# Altium footprint library Gelnar.PcbLib: 295 footprints (part 8 of 19)
Each footprint in its own frame and in the unit in brackets; x right, y up, seen from the top. Pads: shape width x height; smd on the part's side, far side on the other; paste and mask are expansions set on the pad; w line width, h text height; cw(c..) or ccw(c..) is an arc to the next point about the centre after c.
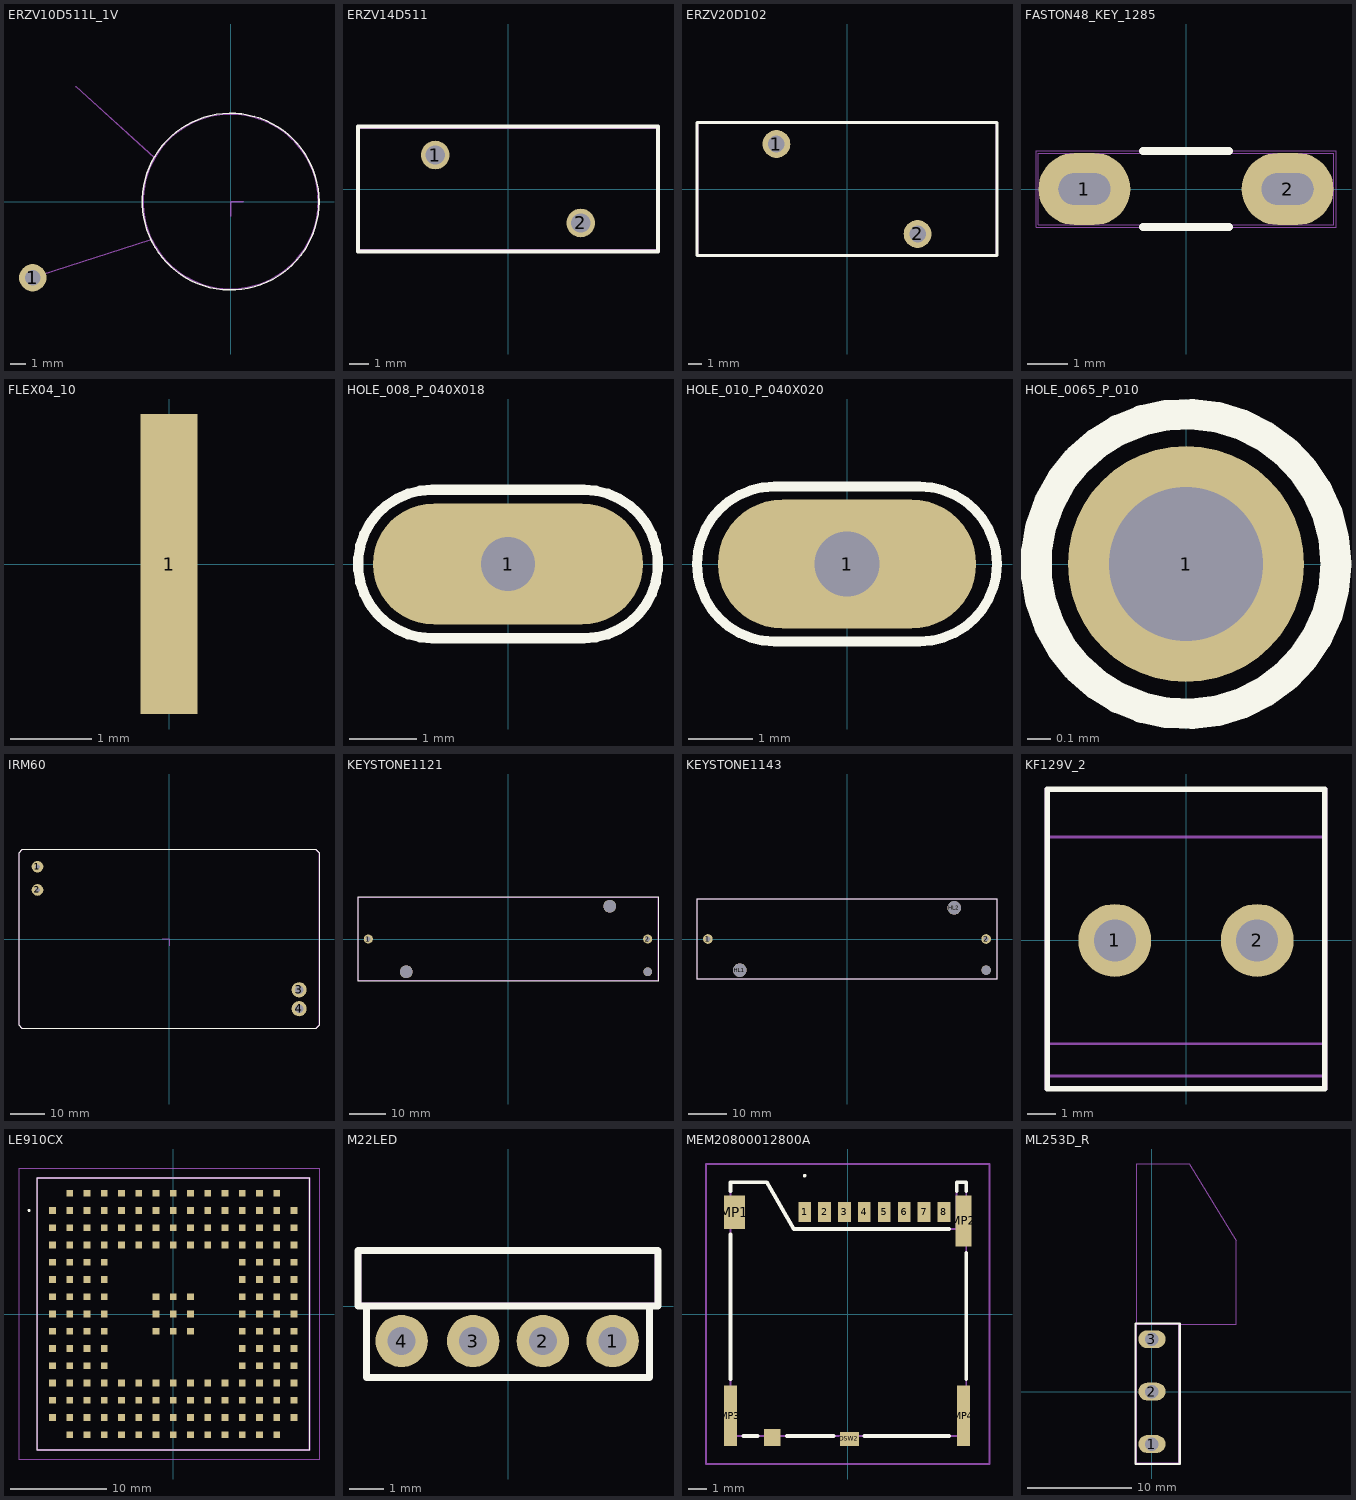
[diagram p7: the footprints below, top view; thin cyan lines are the x and y axes]

## ERZV10D511L_1V [mm]
pads (1):
  round 1.8 hole 1 mask+0.05: 1(-13,-5)
Top Overlay:
  circle w0.1: c0,0 r5.8
Mechanical 9:
  lines w0.1: 0,-0.953 0,0 0.826,0
Mechanical 15:
  circle w0.1: c0,0 r5.75
  lines w0.1: -12.509,-4.826 -5.25,-2.5 ; -10.16,7.556 -5,2.875

## ERZV14D511 [mm]
height 9.5
pads (2):
  round 1.5 hole 1 mask+0.05: 1(-3.81,1.778) 2(3.81,-1.778)
Top Overlay:
  lines w0.2: -7.85,-3.264 -7.85,3.264 7.85,3.264 7.85,-3.264 -7.85,-3.264
Mechanical 15:
  lines w0.1: -7.786,-3.2 -7.786,3.2 7.786,3.2 7.786,-3.2 -7.786,-3.2
Multi-Layer:
  text "Value" at -1.108,-1.353 h0.75
Mechanical 20:
  lines w0.1: -7.85,-3.264 -7.85,3.264 7.85,3.264 7.85,-3.264 -7.85,-3.264

## ERZV20D102 [mm]
height 9.5
pads (2):
  round 2 hole 1.2 mask+0.05: 1(-5.08,3.238) 2(5.08,-3.238)
Top Overlay:
  lines w0.2: -10.795,-4.792 -10.795,4.792 10.795,4.792 10.795,-4.792 -10.795,-4.792
Mechanical 15:
  lines w0.1: -10.731,-4.729 -10.731,4.729 10.731,4.729 10.731,-4.729 -10.731,-4.729
Mechanical 20:
  lines w0.1: -10.795,-4.792 -10.795,4.792 10.795,4.792 10.795,-4.792 -10.795,-4.792

## FASTON48_KEY_1285 [mm]
pads (2):
  oval 2.3x1.8 hole 0.8 slot 1.3 at 0 deg mask+0.05: 1(-2.54,0) 2(2.54,0)
Top Overlay:
  lines w0.2: -1.079,-0.953 1.079,-0.953 ; -1.079,0.953 1.079,0.953
Mechanical 15:
  lines w0.01: -3.7,-0.889 3.7,-0.889 3.7,0.889 -3.7,0.889 -3.7,-0.889
Mechanical 20:
  lines w0.01: -3.752,-0.953 3.752,-0.953 3.752,0.953 -3.752,0.953 -3.752,-0.953
3D body "1285--3DModel-STEP-630548.STEP": height 10.7, standoff -2, extent -3.175,-0.254 3.175,0.254

## FLEX04_10 [mm]
pads (1):
  rect 0.7x3.7 smd mask+0.05: 1(0,0)
Multi-Layer:
  text "Value" at -1.045,-1.187 h0.75

## HOLE_008_P_040X018 [mm]
pads (1):
  oval 4x1.8 hole 0.8 mask+0.05: 1(0,0)
Top Overlay:
  lines w0.15: -1.122,-1.1 1.122,-1.1 ccw(c1.122,0) 1.122,1.1 -1.122,1.1 ccw(c-1.122,0) -1.122,-1.1
Mechanical 15:
  circle w0.01: c0,0 r0.6
Mechanical 16:
  circle w0.01: c0,0 r0.6
Multi-Layer:
  text "Value" at -1.19,-0.697 h0.75
Mechanical 20:
  lines w0.01: -1.15,-1.05 1.15,-1.05 ccw(c1.15,0) 1.15,1.05 -1.15,1.05 ccw(c-1.15,0) -1.15,-1.05

## HOLE_010_P_040X020 [mm]
pads (1):
  oval 4x2 hole 1 mask+0.05: 1(0,0)
Top Overlay:
  lines w0.15: -1.122,-1.2 1.122,-1.2 ccw(c1.122,0) 1.122,1.2 -1.122,1.2 ccw(c-1.122,0) -1.122,-1.2
Mechanical 15:
  circle w0.01: c0,0 r0.6
Mechanical 16:
  circle w0.01: c0,0 r0.6
Multi-Layer:
  text "Value" at -1.235,-0.983 h0.75
Mechanical 20:
  lines w0.01: -1.15,-1.15 1.15,-1.15 ccw(c1.15,0) 1.15,1.15 -1.15,1.15 ccw(c-1.15,0) -1.15,-1.15

## HOLE_0065_P_010 [mm]
pads (1):
  round 1 hole 0.65 mask+0.05: 1(0,0)
Top Overlay:
  circle w0.13: c0,0 r0.635
Mechanical 15:
  circle w0.01: c0,0 r0.635
Drill Drawing:
  circle w0.01: c0,0 r0.25
Multi-Layer:
  text "Description" at -0.767,-1.26 h0.5
Mechanical 20:
  circle w0.01: c0,0 r0.635

## IRM60 [mm]
pads (4):
  round 3.4 hole 1.4 mask+0.05: 1(-38.2,21) 2(-38.2,14.25)
  round 4.4 hole 2.4 mask+0.05: 3(37.8,-14.75) 4(37.8,-20.25)
Top Overlay:
  lines w0.2: -43.561,-25.035 -42.561,-26.035 42.561,-26.035 43.561,-25.035 43.561,25.035 42.561,26.035 -42.561,26.035 -43.561,25.035 -43.561,-25.035
Bottom Overlay:
  text "AC/L" at -31.752,20.348 h1
  text "-V" at 34.478,-14.831 h1
  text "+V" at 34.478,-21.562 h1
  text "AC/N" at -31.752,13.617 h1
Mechanical 15:
  circle w0.1: c-38.2,14.25 r0.65
  circle w0.1: c37.8,-20.25 r0.65
  lines w0.1: -43.5,-25 -42.5,-26 42.5,-26 43.5,-25 43.5,25 42.5,26 -42.5,26 -43.5,25 -43.5,-25
Mechanical 16:
  circle w0.1: c-38.2,14.25 r0.65
  circle w0.1: c37.8,-20.25 r0.65
  lines w0.1: -2,0 0,0 0,-2
Mechanical 20:
  lines w0.1: -43.563,-25.035 -42.563,-26.035 42.561,-26.035 43.561,-25.035 43.561,25.035 42.561,26.035 -42.563,26.035 -43.563,25.035 -43.563,-25.035

## KEYSTONE1121 [mm]
pads (5):
  round 2.5 hole 1.3 mask+0.05: 1(-38.33,0) 2(38.33,0)
  round 3.5 / inner round 1.524 / far side round 1.524 hole 3.5 unplated: HL1(-27.9,-9) HL2(27.9,9)
  round 2.4 / inner round 1.524 / far side round 1.524 hole 2.4 unplated: HL3(38.33,-9)
Top Overlay:
  lines w0.2: -41.15,-11.6 41.15,-11.6 41.15,11.6 -41.15,11.6 -41.15,-11.6
Mechanical 15:
  lines w0.1: -41.1,-11.5 41.1,-11.5 41.1,11.5 -41.1,11.5 -41.1,-11.5

## KEYSTONE1143 [mm]
pads (5):
  round 2.5 hole 1.3 mask+0.05: 1(-35.8,0) 2(35.8,0)
  round 3.5 / inner round 1.524 / far side round 1.524 hole 3.5 unplated: HL1(-27.6,-8) HL2(27.6,8)
  round 2.4 / inner round 1.524 / far side round 1.524 hole 2.4 unplated: HL3(35.8,-8)
Top Overlay:
  lines w0.2: -38.6,-10.4 38.6,-10.4 38.6,10.4 -38.6,10.4 -38.6,-10.4
Mechanical 15:
  lines w0.1: -38.55,-10.35 38.55,-10.35 38.55,10.35 -38.55,10.35 -38.55,-10.35
Multi-Layer:
  text "Value" at -1.299,-1.441 h0.75

## KF129V_2 [mm]
height 18
pads (2):
  round 2.6 hole 1.5 mask+0.1: 1(-2.54,0) 2(2.54,0)
Top Overlay:
  lines w0.2: -4.953,-5.298 4.953,-5.298 4.953,5.397 -4.953,5.397 -4.953,-5.298
Mechanical 15:
  circle w0.1: c-2.54,0 r0.65
  circle w0.1: c2.54,0 r0.65
  lines w0.1: -5,-5.3 -5,5.4 5,5.4 5,-5.3 -5,-5.3
Mechanical 16:
  circle w0.1: c-2.54,0 r0.65
  circle w0.1: c2.54,0 r0.65
Multi-Layer:
  text "Value" at -1.235,-1.504 h0.75
Mechanical 19:
  lines w0.1: -5,-4.833 5,-4.833 ; -5,-3.683 5,-3.683 ; -5,3.683 5,3.683
Mechanical 20:
  lines w0.1: -4.953,-5.261 4.953,-5.261 4.953,5.361 -4.953,5.361 -4.953,-5.261

## LE910CX [mm]
pads (181):
  rect 0.7x0.7 smd: A2(-12.6,10.8) A3(-12.6,9) A4(-12.6,7.2) A5(-12.6,5.4) A6(-12.6,3.6) A7(-12.6,1.8) A8(-12.6,0) A9(-12.6,-1.8) A10(-12.6,-3.6) A11(-12.6,-5.4) A12(-12.6,-7.2) A13(-12.6,-9) A14(-12.6,-10.8) B1(-10.8,12.6) B2(-10.8,10.8) B3(-10.8,9) B4(-10.8,7.2) B5(-10.8,5.4) B6(-10.8,3.6) B7(-10.8,1.8) B8(-10.8,0) B9(-10.8,-1.8) B10(-10.8,-3.6) B11(-10.8,-5.4) B12(-10.8,-7.2) B13(-10.8,-9) B14(-10.8,-10.8) B15(-10.8,-12.6) C1(-9,12.6) C2(-9,10.8) C3(-9,9) C4(-9,7.2) C5(-9,5.4) C6(-9,3.6) C7(-9,1.8) C8(-9,0) C9(-9,-1.8) C10(-9,-3.6) C11(-9,-5.4) C12(-9,-7.2) C13(-9,-9) C14(-9,-10.8) C15(-9,-12.6) D1(-7.2,12.6) D2(-7.2,10.8) D3(-7.2,9) D4(-7.2,7.2) D5(-7.2,5.4) D6(-7.2,3.6) D7(-7.2,1.8) D8(-7.2,0) D9(-7.2,-1.8) D10(-7.2,-3.6) D11(-7.2,-5.4) D12(-7.2,-7.2) D13(-7.2,-9) D14(-7.2,-10.8) D15(-7.2,-12.6) E1(-5.4,12.6) E2(-5.4,10.8) E3(-5.4,9) E4(-5.4,7.2) E12(-5.4,-7.2) E13(-5.4,-9) E14(-5.4,-10.8) E15(-5.4,-12.6) F1(-3.6,12.6) F2(-3.6,10.8) F3(-3.6,9) F4(-3.6,7.2) F12(-3.6,-7.2) F13(-3.6,-9) F14(-3.6,-10.8) F15(-3.6,-12.6) G1(-1.8,12.6) G2(-1.8,10.8) G3(-1.8,9) G4(-1.8,7.2) G7(-1.8,1.8) G8(-1.8,0) G9(-1.8,-1.8) G12(-1.8,-7.2) G13(-1.8,-9) G14(-1.8,-10.8) G15(-1.8,-12.6) H1(0,12.6) H2(0,10.8) H3(0,9) H4(0,7.2) H7(0,1.8) H8(0,0) H9(0,-1.8) H12(0,-7.2) H13(0,-9) H14(0,-10.8) H15(0,-12.6) J1(1.8,12.6) J2(1.8,10.8) J3(1.8,9) J4(1.8,7.2) J7(1.8,1.8) J8(1.8,0) J9(1.8,-1.8) J12(1.8,-7.2) J13(1.8,-9) J14(1.8,-10.8) J15(1.8,-12.6) K1(3.6,12.6) K2(3.6,10.8) K3(3.6,9) K4(3.6,7.2) K12(3.6,-7.2) K13(3.6,-9) K14(3.6,-10.8) K15(3.6,-12.6) L1(5.4,12.6) L2(5.4,10.8) L3(5.4,9) L4(5.4,7.2) L12(5.4,-7.2) L13(5.4,-9) L14(5.4,-10.8) L15(5.4,-12.6) M1(7.2,12.6) M2(7.2,10.8) M3(7.2,9) M4(7.2,7.2) M5(7.2,5.4) M6(7.2,3.6) M7(7.2,1.8) M8(7.2,0) M9(7.2,-1.8) M10(7.2,-3.6) M11(7.2,-5.4) M12(7.2,-7.2) M13(7.2,-9) M14(7.2,-10.8) M15(7.2,-12.6) N1(9,12.6) N2(9,10.8) N3(9,9) N4(9,7.2) N5(9,5.4) N6(9,3.6) N7(9,1.8) N8(9,0) N9(9,-1.8) N10(9,-3.6) N11(9,-5.4) N12(9,-7.2) N13(9,-9) N14(9,-10.8) N15(9,-12.6) P1(10.8,12.6) P2(10.8,10.8) P3(10.8,9) P4(10.8,7.2) P5(10.8,5.4) P6(10.8,3.6) P7(10.8,1.8) P8(10.8,0) P9(10.8,-1.8) P10(10.8,-3.6) P11(10.8,-5.4) P12(10.8,-7.2) P13(10.8,-9) P14(10.8,-10.8) P15(10.8,-12.6) R2(12.6,10.8) R3(12.6,9) R4(12.6,7.2) R5(12.6,5.4) R6(12.6,3.6) R7(12.6,1.8) R8(12.6,0) R9(12.6,-1.8) R10(12.6,-3.6) R11(12.6,-5.4) R12(12.6,-7.2) R13(12.6,-9) R14(12.6,-10.8)
Top Overlay:
  lines w0.1: -14.2,-14.2 14.2,-14.2 14.2,14.2 -14.2,14.2 -14.2,-14.2
  lines w0.2: -15.1,10.8 cw(c-15.05,10.8) -15,10.8 ; -15.1,10.8 -15.1,10.8 ; -15.1,10.8 ccw(c-15.05,10.8) -15,10.8 ; -15,10.8 -15,10.8
Mechanical 15:
  lines w0.2: -14.2,-14.2 14.2,-14.2 14.2,14.2 -14.2,14.2 -14.2,-14.2
Mechanical 20:
  lines w0.1: -16.1,-15.2 15.2,-15.2 15.2,15.2 -16.1,15.2 -16.1,-15.2

## M22LED [mm]
pads (4):
  round 1.5 hole 0.8 mask+0.05: 1(3,-1) 2(1,-1) 3(-1,-1) 4(-3.05,-1)
Top Overlay:
  lines w0.2: -4.3,0 -4.3,1.6 4.3,1.6 4.3,0 -4.3,0 ; -4.05,-2.05 -4.05,0 4.05,0 4.05,-2.05 -4.05,-2.05
Mechanical 15:
  lines w0.1: -4.25,0.05 -4.25,1.55 4.25,1.55 4.25,0.05 -4.25,0.05 ; -4,-2 -4,0 4,0 4,-2 -4,-2

## MEM20800012800A [mm]
pads (14):
  rect 0.7x1.1 smd: 1(-2.38,5.64) 2(-1.28,5.64) 3(-0.18,5.64) 4(0.92,5.64) 5(2.02,5.64) 6(3.12,5.64) 7(4.22,5.64) 8(5.32,5.64)
  rect 0.9x0.93 smd: DSW1(-4.17,-6.825)
  rect 1.05x0.78 smd: DSW2(0.095,-6.9)
  rect 1.14x1.83 smd: MP1(-6.26,5.625)
  rect 0.86x2.8 smd: MP2(6.4,5.14)
  rect 0.7x3.33 smd: MP3(-6.48,-5.625) MP4(6.4,-5.625)
Top Overlay:
  lines w0.1: -2.38,7.595 -2.38,7.595 ; -2.38,7.595 ccw(c-2.38,7.645) -2.38,7.695 ; -2.38,7.595 cw(c-2.38,7.645) -2.38,7.695 ; -2.38,7.695 -2.38,7.695
  lines w0.2: -6.48,-3.605 -6.48,4.395 ; -6.48,6.795 -6.48,7.29 -4.48,7.29 -2.98,4.695 5.62,4.695 ; -5.78,-6.74 -4.98,-6.74 ; -3.38,-6.74 -0.78,-6.74 ; 0.92,-6.74 5.62,-6.74 ; 6.02,6.795 6.02,7.29 6.55,7.29 6.55,6.795 ; 6.55,-3.605 6.55,3.395
Mechanical 15:
  lines w0.1: -6.51,7.29 -4.48,7.29 -2.98,4.695 6.02,4.695 6.02,7.29 6.55,7.29 6.55,-6.74 -6.48,-6.74 -6.48,7.29
Mechanical 20:
  lines w0.1: -7.83,-8.29 7.83,-8.29 7.83,8.29 -7.83,8.29 -7.83,-8.29

## ML253D_R [mm]
pads (3):
  oval 2.6x1.7 hole 1.3 mask+0.05: 1(0,-5) 2(0,0) 3(0,5)
Top Overlay:
  lines w0.2: -1.55,-6.9 -1.55,6.5 2.65,6.5 2.65,-6.9 -1.55,-6.9
Mechanical 15:
  lines w0.1: -1.45,8.3 -1.45,6.4 ; -1.45,6.4 8.05,6.4 8.05,14.4 3.55,21.7 -1.45,21.7 -1.45,6.4 ; -1.45,6.4 2.55,6.4 2.55,-6.8 -1.45,-6.8 -1.45,6.4
Multi-Layer:
  text "Value" at 0.415,12.575 h0.75
Mechanical 20:
  lines w0.1: -1.55,-6.9 -1.55,6.5 2.65,6.5 2.65,-6.9 -1.55,-6.9